# Altium integrated library MIC5504-1.8YM5-TR.IntLib: 1 symbol
Pins are listed as number, name and electrical type; pins without a type are passive.

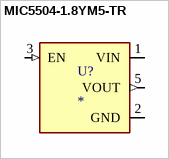
[diagram p0: symbol MIC5504-1.8YM5-TR]

## MIC5504-1.8YM5-TR
designator U?
Linear Voltage Regulator IC Positive Fixed 1 Output 300mA SOT-23-5; MF: Microchip; MP: MIC5504-1.8YM5-TR; SnapEDA_Link: https://www.snapeda.com/parts/MIC5504-1.8YM5-TR/Microchip/view-part/?ref=snap; Package: SOT-23 Microchip; Value: *; Check_prices: https://www.snapeda.com/parts/MIC5504-1.8YM5-TR/Microchip/view-part/?ref=eda
footprint SOT23-5P95_280X145XL45X37N
pins: 1 VIN (power), 2 GND (power), 3 EN (in), 5 VOUT (out)